# Altium schematic symbol library TP5000.SchLib: 1 symbol
Pins are listed as number, name and electrical type; pins without a type are passive.

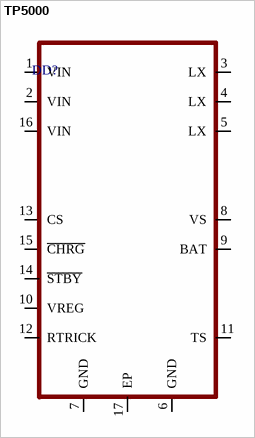
[diagram p0: symbol TP5000]

## TP5000
designator DD?
pins: 1 VIN, 2 VIN, 3 LX, 4 LX, 5 LX, 6 GND, 7 GND, 8 VS, 9 BAT, 10 VREG, 11 TS, 12 RTRICK, 13 CS, 14 ~{STBY}, 15 ~{CHRG}, 16 VIN, 17 EP